# Altium schematic symbol library Mia.SchLib: 69 symbols
Pins are listed as number, name and electrical type; pins without a type are passive.

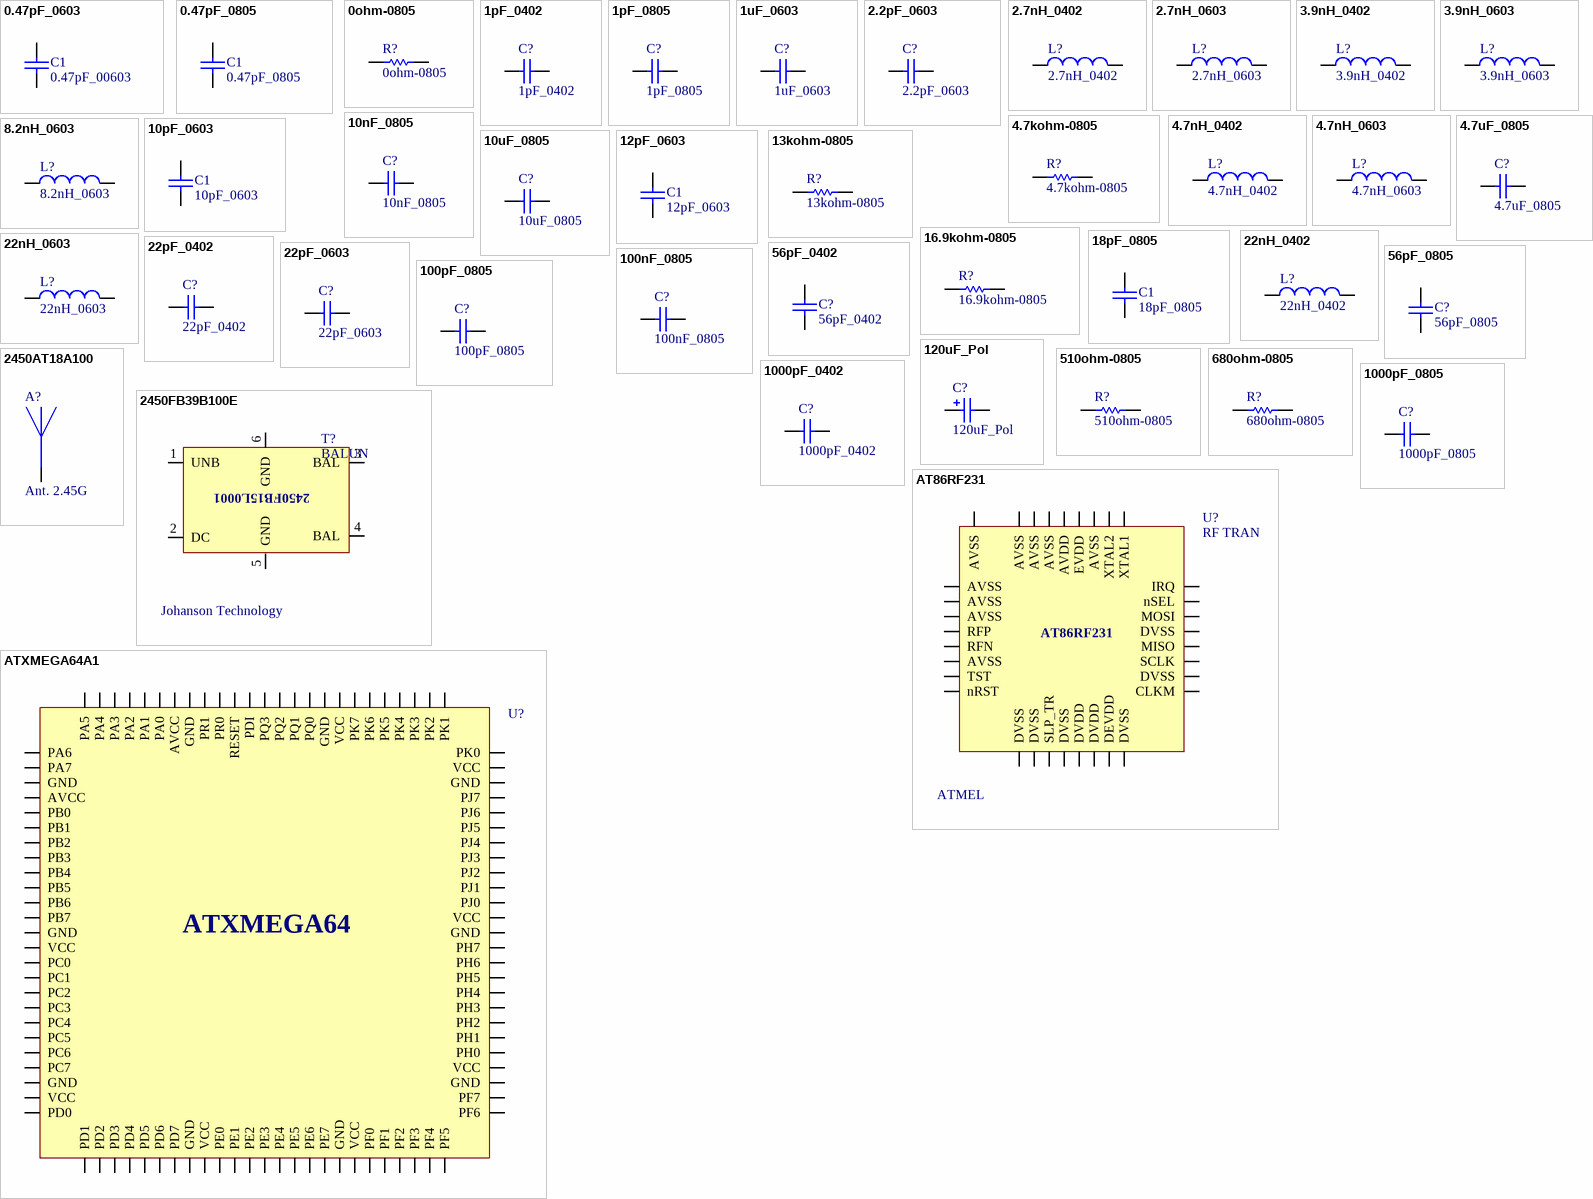
[diagram p0: symbols 0.47pF_0603 to ATXMEGA64A1]

## 0.47pF_0603
designator C1, comment 0.47pF_00603
Condensadores cerámicos multicapa (MLCC) - SMD/SMT 0603 0.47pF 50volts C0G +/-0.25pF; Proveedor: Mouser; Modelo: VJ0603AR47CXACW1BC; Fabricante: Vishay/Vitramon; Mouser: 77-VJ0603AR47CXACBC
footprint 0603
pins: 1, 2

## 0.47pF_0805
designator C1
Condensadores cerámicos multicapa (MLCC) - SMD/SMT 0805 0.47pF 50volts C0G +/-0.25pF; Proveedor: Mouser; Modelo: GRM2165C1HR47CD01D; Fabricante: Murata; Mouser: 81-GRM215C1HR47CD01D
footprint 0805 (Chip Resistor; Body 2.0 x 1.3 mm (LxW typ))
pins: 1, 2

## 0ohm-0805
designator R?
Resistor de 0 ohm 0805; Modelo: N/A; Fabricante: N/A; Proveedor: N/A
footprint 0603
pins: 1, 2

## 1pF_0402
designator C?
CAP CERM 1.0PF 50V NP0 RF 0402; Proveedor: Digikey; Modelo: 04025U1R0BAT2A; Fabricante: AVX Corporation; Digikey: 478-3832-1-ND
footprint 0402
pins: 1, 2

## 1pF_0805
designator C?
CAP CERM 1.0PF 200V NP0 RF 0805; Proveedor: Digikey; Modelo: 08052U1R0CAT2A; Fabricante: AVX Corporation; Digikey: 478-3843-1-ND
footprint 0805 (Chip Resistor; Body 2.0 x 1.3 mm (LxW typ))
pins: 1, 2

## 1uF_0603
designator C?
CAP CERM 1UF 10% 16V X5R 0603; Proveedor: Digikey; Modelo: 0603YD105KAT2A; Fabricante: AVX Corporation; Digikey: 478-1249-1-ND
footprint 0603
pins: 1, 2

## 2.2pF_0603
designator C?
CAP CER 2.2PF 50V C0G 0603; Proveedor: Digikey; Fabricante: Murata Electronics North America; Modelo: GRM1885C1H2R2CZ01D; Digikey: 490-1380-1-ND
footprint 0603
pins: 1, 2

## 2.7nH_0402
designator L?
CER INDUCTOR 2.7NH 0402; Modelo: L-07C2N7SV6T; Proveedor: Digikey; Fabricante: Johanson Technology Inc; Digikey: 712-1415-1-ND
footprint 0402
pins: 1, 2

## 2.7nH_0603
designator L?
INDUCTOR MULTILAYER 2.7NH 0603; Modelo: MLG1608B2N7S; Proveedor: Digikey; Fabricante: TDK Corporation; Digikey: 445-1485-1-ND
footprint 0603
pins: 1, 2

## 3.9nH_0402
designator L?
INDUCTOR 3.9NH +/-0.2NH 0402; Modelo: HPL1005-3N9; Fabricante: Susumu Co Ltd; Proveedor: Digikey; Digikey: 408-1007-1-ND
footprint 0402
pins: 1, 2

## 3.9nH_0603
designator L?
CER INDUCTOR 3.9NH 0603; Modelo: L-14C3N9SV4T; Fabricante: Johanson Technology Inc; Proveedor: Digikey; Digikey: 712-1429-1-ND
footprint 0603
pins: 1, 2

## 4.7kohm-0805
designator R?
RES 4.7K OHM 0.15W 0.5% 0603; Modelo: MCT0603MD4701DP500; Fabricante: Vishay/Beyschlag; Proveedor: Digikey; Digikey: MCT0603-4.7K-MDCT-ND
footprint 0805 (Chip Resistor; Body 2.0 x 1.3 mm (LxW typ))
pins: 1, 2

## 4.7nH_0402
designator L?
INDUCTOR MULTILAYER 4.7NH 0402; Modelo: MLG1005S4N7S; Proveedor: Digikey; Fabricante: TDK Corporation; Digikey: 445-3051-1-ND
footprint 0402
pins: 1, 2

## 4.7nH_0603
designator L?
CER INDUCTOR 4.7NH 0603; Modelo: L-14C4N7SV4T; Proveedor: Digikey; Fabricante: Johanson Technology Inc; Digikey: 712-1430-1-ND
footprint 0603
pins: 1, 2

## 4.7uF_0805
designator C?
CAP CER 4.7UF 10V X7R 080; Proveedor: Digikey; Modelo: LMK212B7475KG-T; Fabricante: Taiyo Yuden; Digikey: 587-1442-1-ND
footprint 0805 (Chip Resistor; Body 2.0 x 1.3 mm (LxW typ))
pins: 1, 2

## 8.2nH_0603
designator L?
CER INDUCTOR 8.2NH 0603; Modelo: L-14C8N2JV4T; Proveedor: Digikey; Fabricante: Johanson Technology Inc; Digikey: 712-1433-1-ND
footprint 0603
pins: 1, 2

## 10nF_0805
designator C?
CAP CERM 10000PF 5% 100V X7R0805; Proveedor: Digikey; Fabricante: AVX Corporation; Modelo: 08051C103JAT2A; Digikey: 478-3745-1-ND
footprint 0805 (Chip Resistor; Body 2.0 x 1.3 mm (LxW typ))
pins: 1, 2

## 10pF_0603
designator C1
CAP CER 10PF 50V NP0 0603; Proveedor: Digikey; Modelo: 500R14N100JV4T; Fabricante: Johanson Dielectrics Inc; Digikey: 709-1140-1-ND
footprint 0603
pins: 1, 2

## 10uF_0805
designator C?
CAP CER 10UF 10V Y5V 0805; Proveedor: Digikey; Modelo: C2012Y5V1A106Z; Fabricante: TDK CORPORATION; Digikey: 445-1371-1-ND
footprint 0805 (Chip Resistor; Body 2.0 x 1.3 mm (LxW typ))
pins: 1, 2

## 12pF_0603
designator C1
CAP CER 18PF 50V NP0 0805; Proveedor: Digikey; Modelo: 06035A120JAT2A; Fabricante: AVX Corporation; Digikey: 478-1164-1-ND
footprint 0603
pins: 1, 2

## 13kohm-0805
designator R?
RES 13K OHM 1/4W 5% 0805 SMD; Modelo: ESR10EZPJ133; Fabricante: Rohm Semiconductor; Proveedor: Digikey; Digikey: RHM13KKCT-ND
footprint 0805 (Chip Resistor; Body 2.0 x 1.3 mm (LxW typ))
pins: 1, 2

## 16.9kohm-0805
designator R?
RES 16.9K OHM 1/8W 1% 0805 SMD; Modelo: MCR10EZPF1692; Fabricante: Rohm Semiconductor; Proveedor: Digikey; Digikey: RHM16.9KCRCT-ND
footprint 0805 (Chip Resistor; Body 2.0 x 1.3 mm (LxW typ))
pins: 1, 2

## 18pF_0805
designator C1
CAP CER 18PF 50V NP0 0805; Proveedor: Digikey; Modelo: 500R15N180JV4T; Fabricante: Johanson Dielectrics Inc; Digikey: 709-1171-1-ND
footprint 0805 (Chip Resistor; Body 2.0 x 1.3 mm (LxW typ))
pins: 1, 2

## 22nH_0402
designator L?
CER INDUCTOR 22NH 0402; Proveedor: Digikey; Modelo: L-07C22NJV6T; Fabricante: Johanson Technology Inc; Digikey: 712-1455-1-ND
footprint 0402
pins: 1, 2

## 22nH_0603
designator L?
CER INDUCTOR 22NH 0603; Proveedor: Digikey; Modelo: L-14C22NJV4T; Fabricante: Johanson Technology Inc; Digikey: 712-1438-1-ND
footprint 0603
pins: 1, 2

## 22pF_0402
designator C?
CAP CER 22PF 50V S 0402 UHI Q; Proveedor: Digikey; Fabricante: Johanson Technology Inc; Modelo: 500R07S220JV4T; Digikey: 712-1275-1-ND
footprint 0402
pins: 1, 2

## 22pF_0603
designator C?
CAP CERM 22PF 5% 50V NP0 0603; Proveedor: Digikey; Fabricante: AVX Corporation; Modelo: 06035A220JAT2A; Digikey: 478-1167-1-ND
footprint 0603
pins: 1, 2

## 56pF_0402
designator C?
CAP CER 56PF 50V 5% C0G 0402; Proveedor: Digikey; Modelo: GRM1555C1H560JD01D; Fabricante: Murata Electronics North America; Digikey: 490-1288-1-ND
footprint 0402
pins: 1, 2

## 56pF_0805
designator C?
CAP CER 56PF 100V 5% C0G 0805; Proveedor: Digikey; Modelo: GRM2195C2A560JZ01D; Fabricante: Murata Electronics North America; Digikey: 490-1594-1-ND
footprint 0805 (Chip Resistor; Body 2.0 x 1.3 mm (LxW typ))
pins: 1, 2

## 100nF_0805
designator C?
CAP CER 100PF 630V X7R 0805; Proveedor: Digikey; Fabricante: AVX Corporation; Modelo: 08055C104JAT2A; Digikey: 478-3352-1-ND
footprint 0805 (Chip Resistor; Body 2.0 x 1.3 mm (LxW typ))
pins: 1, 2

## 100pF_0805
designator C?
CAP CER 100PF 630V X7R 0805; Proveedor: Digikey; Fabricante: Kemet; Modelo: C0805C101KBRACTU; Digikey: 399-5571-1-ND
footprint 0805 (Chip Resistor; Body 2.0 x 1.3 mm (LxW typ))
pins: 1, 2

## 120uF_Pol
designator C?
CAP POLY ALUM 120UF 16V SMD; Fabricante: Nichicon; Proveedor: Digikey; Modelo: PCJ1C121MCL1GS; Digikey: 493-3054-1-ND
footprint C-aluminio
pins: 1, 2
1 alternate drawing of the same symbol

## 510ohm-0805
designator R?
RES 510 OHM 1/10W .5% 0805 SMD; Modelo: RR1220P-511-D; Fabricante: Susumu Co Ltd; Proveedor: Digikey; Digikey: RR12P510DCT-ND
footprint 0805 (Chip Resistor; Body 2.0 x 1.3 mm (LxW typ))
pins: 1, 2

## 680ohm-0805
designator R?
RES 680 OHM 1/4W 5% 0805 SMD; Modelo: ESR10EZPJ681; Fabricante: Rohm Semiconductor; Proveedor: Digikey; Digikey: RHM680KCT-ND
footprint 0805 (Chip Resistor; Body 2.0 x 1.3 mm (LxW typ))
pins: 1, 2

## 1000pF_0402
designator C?
CAP CERM 1000PF 5% 50V X7R 0402; Proveedor: Digikey; Fabricante: AVX Corporation; Modelo: 04025C102JAT2A; Digikey: 478-3661-1-ND
footprint 0402
pins: 1, 2

## 1000pF_0805
designator C?
CAP CER 1000PF 50V X7R 0805; Proveedor: Digikey; Fabricante: Johanson Dielectrics Inc; Modelo: 709-1187-1-ND; Digikey: 709-1187-1-ND
footprint 0805 (Chip Resistor; Body 2.0 x 1.3 mm (LxW typ))
pins: 1, 2

## 2450AT18A100
designator A?, comment Ant. 2.45G
ANTENNA CHIP 2.4GHZ; Proveedor: DIGIKEY; Fabricante: Johanson Technology; Modelo: 2450AT18A100E; DIGIKEY: 712-1005-1-ND
footprint ANTENNA CHIP (ANTENNA CHIP 2.4GHZ)
pins: 1 OUT

## 2450FB39B100E
designator T?, comment BALUN  Fabricante: Johanson Technology
FILTER BALUN CER CHIP 2.4GHZ; Proveedor: DIGIKEY; Modelo: 2450FB39B100E; DIGIKEY: 712-1068-1-ND
footprint BALUN (FILTER BALUN CER CHIP 2.4GHZ)
pins: 1 UNB, 2 DC, 3 BAL, 4 BAL, 5 GND, 6 GND
text: 2450FB15L0001

## AT86RF231
designator U?, comment RF TRAN  Fabricante: ATMEL
IC TXRX ZIGBEE/802.15.4 32QFN; Proveedor: DIGIKEY; Modelo: AT86RF230-ZU; DIGIKEY: AT86RF230-ZU-ND
footprint QFN32_50 (QFN32)
pins: 1 AVSS, 2 AVSS, 3 AVSS, 4 RFP, 5 RFN, 6 AVSS, 7 TST, 8 nRST, 9 DVSS, 10 DVSS, 11 SLP_TR, 12 DVSS, 13 DVDD, 14 DVDD, 15 DEVDD, 16 DVSS, 17 CLKM, 18 DVSS, 19 SCLK, 20 MISO, 21 DVSS, 22 MOSI, 23 nSEL, 24 IRQ, 25 XTAL1, 26 XTAL2, 27 AVSS, 28 EVDD, 29 AVDD, 30 AVSS, 31 AVSS, 32 AVSS, 33 AVSS

## ATXMEGA64A1
designator U?, comment XMEGA  (value not drawn)
MCU AVR 64K FLASH 1.6V 100-TQFP; Modelo: ATXMEGA64A1-AU; Proveedor: ESPER-CHAIN; Fabricante: Atmel; DIGIKEY: ATXMEGA64A1-AU-ND
footprint Quad100
pins: 1 PA6, 2 PA7, 3 GND, 4 AVCC, 5 PB0, 6 PB1, 7 PB2, 8 PB3, 9 PB4, 10 PB5, 11 PB6, 12 PB7, 13 GND, 14 VCC, 15 PC0, 16 PC1, 17 PC2, 18 PC3, 19 PC4, 20 PC5, 21 PC6, 22 PC7, 23 GND, 24 VCC, 25 PD0, 26 PD1, 27 PD2, 28 PD3, 29 PD4, 30 PD5, 31 PD6, 32 PD7, 33 GND, 34 VCC, 35 PE0, 36 PE1, 37 PE2, 38 PE3, 39 PE4, 40 PE5, 41 PE6, 42 PE7, 43 GND, 44 VCC, 45 PF0, 46 PF1, 47 PF2, 48 PF3, 49 PF4, 50 PF5, 51 PF6, 52 PF7, 53 GND, 54 VCC, 55 PH0, 56 PH1, 57 PH2, 58 PH3, 59 PH4, 60 PH5, 61 PH6, 62 PH7, 63 GND, 64 VCC, 65 PJ0, 66 PJ1, 67 PJ2, 68 PJ3, 69 PJ4, 70 PJ5, 71 PJ6, 72 PJ7, 73 GND, 74 VCC, 75 PK0, 76 PK1, 77 PK2, 78 PK3, 79 PK4, 80 PK5, 81 PK6, 82 PK7, 83 VCC, 84 GND, 85 PQ0, 86 PQ1, 87 PQ2, 88 PQ3, 89 PDI, 90 RESET, 91 PR0, 92 PR1, 93 GND, 94 AVCC, 95 PA0, 96 PA1, 97 PA2, 98 PA3, 99 PA4, 100 PA5
text: ATXMEGA64

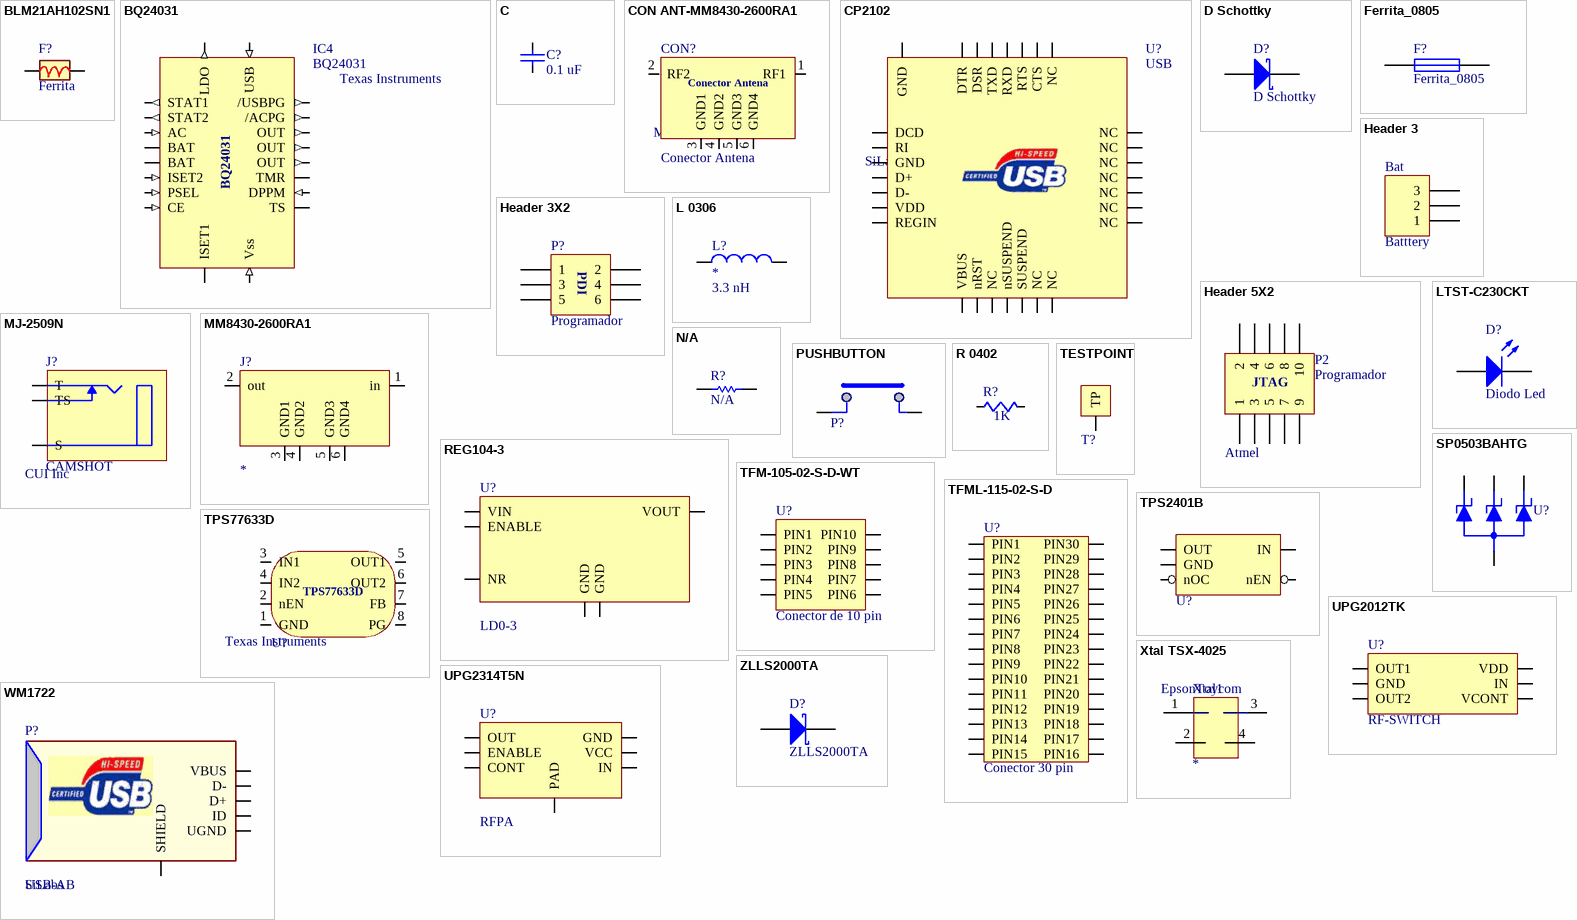
[diagram p1: symbols BLM21AH102SN1 to ZLLS2000TA]

## BLM21AH102SN1
designator F?, comment Ferrita
Chip Ferrite Beads
footprint 0603
pins: 1 X, 2 Y

## BQ24031
designator IC4  Fabricante: Texas Instruments
IC PWR MANAGEMENT SYSTEM 20-QFN; Modelo: BQ24031RHLR; Proveedor: DIGIKEY; DIGIKEY: 296-21372-1-ND
footprint BQ24031
pins: 1 LDO (out), 2 STAT1 (out), 3 STAT2 (out), 4 AC (in), 5 BAT (io), 6 BAT (io), 7 ISET2 (in), 8 PSEL (in), 9 CE (in), 10 ISET1 (io), 11 Vss (in), 12 TS (io), 13 DPPM (in), 14 TMR (io), 15 OUT (out), 16 OUT (out), 17 OUT (out), 18 /ACPG (out), 19 /USBPG (out), 20 USB (in)
2 alternate drawings of the same symbol

## C
designator C?  Valor: 0.1 uF  (hidden comment: *)
CONDENSADOR
footprint 0402 (Chip Capacitor; Body 1.0 x 0.5 mm (LxW typ))
pins: 1, 2

## CON ANT-MM8430-2600RA1
designator CON?, comment Conector Antena  Fabricante: Murata
CONN MW COAXIAL WITH SWITCH; Proveedor: DIGIKEY
footprint MM8430-2600_Coaxial Connectors
pins: 1 RF1, 2 RF2, 3 GND1, 4 GND2, 5 GND3, 6 GND4

## CP2102
designator U?, comment USB  Fabricante: SiLabs
IC USB-TO-UART BRIDGE 28MLP; Modelo: CP2102-GM; Proveedor: DIGIKEY; DIGIKEY: 336-1160-ND; helpURL: ..\..\Datasheets\USB\cp2102\cp2102.pdf
footprint QFN28_5X5 (QFN para SiLab CP2102)
pins: 0 GND, 1 DCD, 2 RI, 3 GND, 4 D+, 5 D-, 6 VDD, 7 REGIN, 8 VBUS, 9 nRST, 10 NC, 11 nSUSPEND, 12 SUSPEND, 13 NC, 14 NC, 15 NC, 16 NC, 17 NC, 18 NC, 19 NC, 20 NC, 21 NC, 22 NC, 23 CTS, 24 RTS, 25 RXD, 26 TXD, 27 DSR, 28 DTR

## D Schottky
designator D?
DIODE SCHOTTKY POWER 2A 60V SMB; Proveedor: Digikey; Fabricante: ON Semiconductor; Modelo: SS26T3; Digikey: SS26T3OSCT-ND
footprint Schottcky
pins: 1 A, 2 K

## Ferrita_0805
designator F?
FERRITE CHIP 220 OHM 2000MA 0805; Proveedor: Digikey; Modelo: BLM21PG221SN1D; Fabricante: Murata Electronics North America; Digikey: 490-1054-1-ND
footprint 0805 (Chip Resistor; Body 2.0 x 1.3 mm (LxW typ))
pins: 1, 2

## Header 3
designator Bat, comment Batttery
Header, 3-Pin; Publisher: Altium Limited; LatestRevisionDate: 17-Jul-2002; LatestRevisionNote: Re-released for DXP Platform.
signal-integrity model Connector
footprint HDR1X3 (Connector; Header; 3 Position)
pins: 1, 2, 3

## Header 3X2
designator P?, comment Programador
Header, 3-Pin, Dual row; LatestRevisionDate: 17-Jul-2002; LatestRevisionNote: Re-released for DXP Platform.; Publisher: Altium Limited
signal-integrity model Connector
footprint HDR2X3 (Connector; Header; 3x2 Position)
pins: 1, 2, 3, 4, 5, 6
text: PDI

## Header 5X2
designator P2, comment Programador  Fabricante: Atmel
Header, 5-Pin, Dual row; LatestRevisionDate: 17-Jul-2002; LatestRevisionNote: Re-released for DXP Platform.; Publisher: Altium Limited
footprint HDR2X5 (Connector; Header; 5x2 Position)
signal-integrity model Connector
pins: 1, 2, 3, 4, 5, 6, 7, 8, 9, 10
text: JTAG

## L 0306
designator L?  value 3.3 nH
BOBINA 0306; Proveedor: DIGIKEY
pins: 1, 2

## LTST-C230CKT
designator D?, comment Diodo Led
Typical INFRARED GaAs LED; Fabricante: Lite-On Inc; Proveedor: Digikey; Modelo: LTST-C230CKT; Digikey: 160-1186-1-ND
footprint Diode Led
pins: 1 A, 2 K

## MJ-2509N
designator J?, comment CAMSHOT  Fabricante: CUI Inc
CONN MONO JACK 2.5MM PCB MNT; Modelo: MJ-2509N; Proveedor: DIGIKEY; DIGIKEY: CP-M2509N-ND
footprint MJ-2509N (CONN MONO JACK 2.5MM PCB MNT)
pins: 1 S, 2 T, 3 TS

## MM8430-2600RA1
designator J?
CONN MW COAXIAL WITH SWITCH; Modelo: MM8430-2600RA1; Fabricante: Murata Electronics North America; Proveedor: DIGIKEY; DIGIKEY: 490-1062-1-ND
footprint MM8430-2600_Coaxial Connectors
pins: 1 in, 2 out, 3 GND1, 4 GND2, 5 GND3, 6 GND4

## N/A
designator R?
Resistor N/A; Modelo: N/A; Fabricante: N/A; Proveedor: N/A
footprint 0805 (Chip Resistor; Body 2.0 x 1.3 mm (LxW typ))
pins: 1, 2

## PUSHBUTTON
designator P?, comment Pulsador  (value not drawn)
SWITCH TACT 6X3.5MM H=4.3MM 180G; Proveedor: DIGIKEY; Modelo: TL1107AF180WQ; Fabricante: E-Switch; DIGIKEY: EG2511-ND
footprint PUSH-BUTTON-W (SWITCH TACT 6X3.5MM H=4.3MM)
pins: 1, 2

## R 0402
designator R?  value 1K  (hidden comment: *)
RESISTENCIA 0402 SMD; Proveedor: DIGIKEY
footprint 0603
pins: 1, 2

## REG104-3
designator U?, comment LD0-3
IC LDO REG 3.0V 1A SOT223-6; Fabricante: Texas Instruments; Modelo: REG104GA-3; Proveedor: DIGIKEY; DIGIKEY: REG104GA-3-ND
footprint SOT-223-5 (Encapsulado DCQ de TI)
pins: 1 VIN, 2 VOUT, 3 GND, 4 NR, 5 ENABLE, 6 GND

## SP0503BAHTG
designator U?, comment TVS  (value not drawn)
TVS AVAL DIODE ARRAY 3 CH SOT143; Fabricante: Litttlefuse; Proveedor: DIGIKEY; Modelo: SP0503BAHTG; DIGIKEY: F2715CT-ND
footprint SOT-143 (SOT143)
pins: 1 GND, 2 C, 3 C, 4 C

## TESTPOINT
designator T?  (value not drawn)
Punto de Test; Fabricante: N/A; Modelo: N/A; Proveedor: N/A
footprint TESTPOINT (Punto de test)
pins: 1 TP

## TFM-105-02-S-D-WT
designator U?, comment Conector de 10 pin
CONN HEADER 10POS 1.27MM GLD SMD; Modelo: TFM-105-02-S-D-WT; Fabricante: Samtec Inc; Proveedor: Digikey; Digikey: SAM8704-ND
footprint TFM-105-02-L-D-WT
pins: 1 PIN1, 2 PIN2, 3 PIN3, 4 PIN4, 5 PIN5, 6 PIN6, 7 PIN7, 8 PIN8, 9 PIN9, 10 PIN10

## TFML-115-02-S-D
designator U?, comment Conector 30 pin
CONN HEADER .05" 30POS DUAL SMD; Modelo: TFML-115-02-S-D; Proveedor: Digikey; Fabricante: Samtec Inc; Digikey: SAM8264-ND
footprint TFML-115-02-S-D
pins: 1 PIN1, 2 PIN2, 3 PIN3, 4 PIN4, 5 PIN5, 6 PIN6, 7 PIN7, 8 PIN8, 9 PIN9, 10 PIN10, 11 PIN11, 12 PIN12, 13 PIN13, 14 PIN14, 15 PIN15, 16 PIN16, 17 PIN17, 18 PIN18, 19 PIN19, 20 PIN20, 21 PIN21, 22 PIN22, 23 PIN23, 24 PIN24, 25 PIN25, 26 PIN26, 27 PIN27, 28 PIN28, 29 PIN29, 30 PIN30

## TPS2401B
designator U?, comment Limitador  (value not drawn)
IC PWR DIST SWITCH SNGL SOT23-5; Fabricante: Texas Instruments; Modelo: TPS2041BDBVR; Proveedor: DIGIKEY; DIGIKEY: 296-21263-1-ND
footprint SOT-23-DBV
pins: 1 OUT, 2 GND, 3 nOC, 4 nEN, 5 IN

## TPS77633D
designator U?  Fabricante: Texas Instruments  (hidden comment: TPS77633D)
IC 3.3V 500MA LDO REG 8-SOIC; Proveedor: DIGIKEY; Modelo: TPS77633D; DIGIKEY: 296-2782-5-ND
footprint TPS77633D
pins: 1 GND, 2 nEN, 3 IN1, 4 IN2, 5 OUT1, 6 OUT2, 7 FB, 8 PG

## UPG2012TK
designator U?, comment RF-SWITCH
IC SWITCH SPDT 6-MINIMOLD; Modelo: UPG2012TK-A; Proveedor: DIGIKEY; Fabricante: NEC; DIGIKEY: UPG2012TK-A-ND
footprint MINI-MOLD (6-PIN LEAD-LESS MINIMOLD (1511))
pins: 1 OUT1, 2 GND, 3 OUT2, 4 VCONT, 5 IN, 6 VDD

## UPG2314T5N
designator U?, comment RFPA
IC AMP BLUETOOTH 6-TSON; Modelo: UPG2314T5N-E2-A; Proveedor: DIGIKEY; Fabricante: NEC; DIGIKEY: UPG2314T5N-E2-ACT-ND
footprint TSON6 (6-PIN PLASTIC TSON)
pins: 1 OUT, 2 ENABLE, 3 CONT, 4 IN, 5 VCC, 6 GND, 7 PAD

## WM1722
designator P?, comment USB-AB  Fabricante: SiLabs
CONN RECEPT USB 5POS RT ANG SMD; Proveedor: DIGIKEY; Modelo: 56579-0576; DIGIKEY: WM17122CT-ND
footprint USB-MINI-AB-SMT (Conector MINI-USB-AB-SMT)
pins: D+, D-, ID, SHIELD, UGND, VBUS

## Xtal TSX-4025
designator Xtal1  Fabricante: EpsonToycom
Cristal 16Mhz; Modelo: *; Proveedor: *; DIGIKEY: *
footprint TSX-4025 (Xtal 16Mhz)
pins: 1 OSC1, 2 OSC2, 3 OSC2, 4 OSC2
2 alternate drawings of the same symbol

## ZLLS2000TA
designator D?
DIODE SCHOTTKY 40V 2.2A SOT23-6; Proveedor: DIGIKEY; Fabricante: Zetex; Modelo: ZLLS2000TA; DIGIKEY: ZLLS2000CT-ND
pins: 1 A, 2 K